# Altium footprint library PCB.PcbLib: 35 footprints (part 3 of 3)
Each footprint in its own frame and in the unit in brackets; x right, y up, seen from the top. Pads: shape width x height; smd on the part's side, far side on the other; paste and mask are expansions set on the pad; w line width, h text height; cw(c..) or ccw(c..) is an arc to the next point about the centre after c.
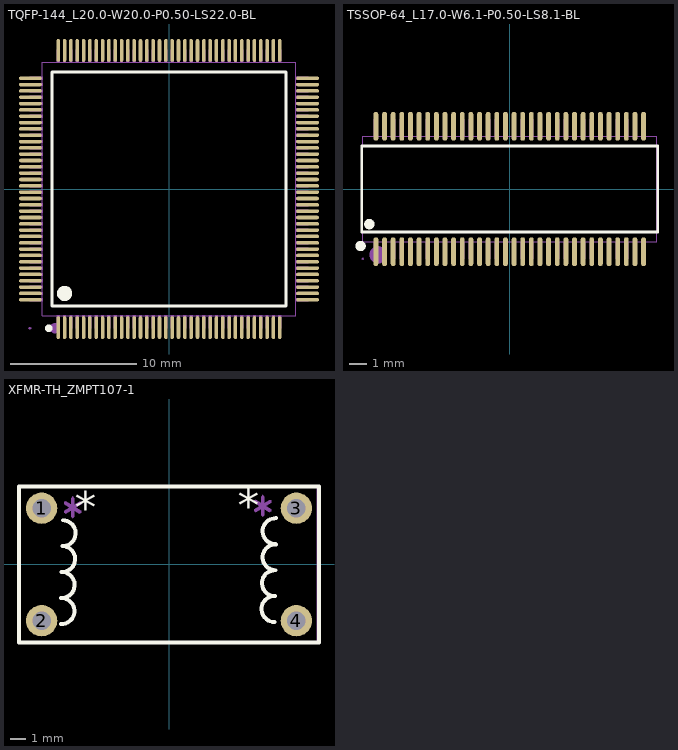
[diagram p2: the footprints below, top view; thin cyan lines are the x and y axes]

## TQFP-144_L20.0-W20.0-P0.50-LS22.0-BL [mm]
pads (144):
  oval 0.28x1.8 smd: 1(-8.75,-10.95) 2(-8.25,-10.95) 3(-7.75,-10.95) 4(-7.25,-10.95) 5(-6.75,-10.95) 6(-6.25,-10.95) 7(-5.75,-10.95) 8(-5.25,-10.95) 9(-4.75,-10.95) 10(-4.25,-10.95) 11(-3.75,-10.95) 12(-3.25,-10.95) 13(-2.75,-10.95) 14(-2.25,-10.95) 15(-1.75,-10.95) 16(-1.25,-10.95) 17(-0.75,-10.95) 18(-0.25,-10.95) 19(0.25,-10.95) 20(0.75,-10.95) 21(1.25,-10.95) 22(1.75,-10.95) 23(2.25,-10.95) 24(2.75,-10.95) 25(3.25,-10.95) 26(3.75,-10.95) 27(4.25,-10.95) 28(4.75,-10.95) 29(5.25,-10.95) 30(5.75,-10.95) 31(6.25,-10.95) 32(6.75,-10.95) 33(7.25,-10.95) 34(7.75,-10.95) 35(8.25,-10.95) 36(8.75,-10.95) 73(8.75,10.95) 74(8.25,10.95) 75(7.75,10.95) 76(7.25,10.95) 77(6.75,10.95) 78(6.25,10.95) 79(5.75,10.95) 80(5.25,10.95) 81(4.75,10.95) 82(4.25,10.95) 83(3.75,10.95) 84(3.25,10.95) 85(2.75,10.95) 86(2.25,10.95) 87(1.75,10.95) 88(1.25,10.95) 89(0.75,10.95) 90(0.25,10.95) 91(-0.25,10.95) 92(-0.75,10.95) 93(-1.25,10.95) 94(-1.75,10.95) 95(-2.25,10.95) 96(-2.75,10.95) 97(-3.25,10.95) 98(-3.75,10.95) 99(-4.25,10.95) 100(-4.75,10.95) 101(-5.25,10.95) 102(-5.75,10.95) 103(-6.25,10.95) 104(-6.75,10.95) 105(-7.25,10.95) 106(-7.75,10.95) 107(-8.25,10.95) 108(-8.75,10.95)
  oval 1.8x0.28 smd: 37(10.95,-8.75) 38(10.95,-8.25) 39(10.95,-7.75) 40(10.95,-7.25) 41(10.95,-6.75) 42(10.95,-6.25) 43(10.95,-5.75) 44(10.95,-5.25) 45(10.95,-4.75) 46(10.95,-4.25) 47(10.95,-3.75) 48(10.95,-3.25) 49(10.95,-2.75) 50(10.95,-2.25) 51(10.95,-1.75) 52(10.95,-1.25) 53(10.95,-0.75) 54(10.95,-0.25) 55(10.95,0.25) 56(10.95,0.75) 57(10.95,1.25) 58(10.95,1.75) 59(10.95,2.25) 60(10.95,2.75) 61(10.95,3.25) 62(10.95,3.75) 63(10.95,4.25) 64(10.95,4.75) 65(10.95,5.25) 66(10.95,5.75) 67(10.95,6.25) 68(10.95,6.75) 69(10.95,7.25) 70(10.95,7.75) 71(10.95,8.25) 72(10.95,8.75) 109(-10.95,8.75) 110(-10.95,8.25) 111(-10.95,7.75) 112(-10.95,7.25) 113(-10.95,6.75) 114(-10.95,6.25) 115(-10.95,5.75) 116(-10.95,5.25) 117(-10.95,4.75) 118(-10.95,4.25) 119(-10.95,3.75) 120(-10.95,3.25) 121(-10.95,2.75) 122(-10.95,2.25) 123(-10.95,1.75) 124(-10.95,1.25) 125(-10.95,0.75) 126(-10.95,0.25) 127(-10.95,-0.25) 128(-10.95,-0.75) 129(-10.95,-1.25) 130(-10.95,-1.75) 131(-10.95,-2.25) 132(-10.95,-2.75) 133(-10.95,-3.25) 134(-10.95,-3.75) 135(-10.95,-4.25) 136(-10.95,-4.75) 137(-10.95,-5.25) 138(-10.95,-5.75) 139(-10.95,-6.25) 140(-10.95,-6.75) 141(-10.95,-7.25) 142(-10.95,-7.75) 143(-10.95,-8.25) 144(-10.95,-8.75)
Top Overlay:
  lines w0.254: -9.25,-9.25 9.25,-9.25 9.25,9.25 -9.25,9.25 -9.25,-9.25
  lines w0.3: -9.5,-10.851 ccw(c-9.498,-11.001) -9.497,-10.851
  lines w0.6: -8.25,-7.95 ccw(c-8.247,-8.25) -8.245,-7.95
Mechanical 6:
  circle w0.4: c-9.02,-11 r0.2
Mechanical 15:
  drawing of 293 lines, arcs and shapes, not listed

## TSSOP-64_L17.0-W6.1-P0.50-LS8.1-BL [mm]
pads (64):
  oval 0.28x1.67 smd: 1(-7.75,-3.63) 2(-7.25,-3.63) 3(-6.75,-3.63) 4(-6.25,-3.63) 5(-5.75,-3.63) 6(-5.25,-3.63) 7(-4.75,-3.63) 8(-4.25,-3.63) 9(-3.75,-3.63) 10(-3.25,-3.63) 11(-2.75,-3.63) 12(-2.25,-3.63) 13(-1.75,-3.63) 14(-1.25,-3.63) 15(-0.75,-3.63) 16(-0.25,-3.63) 17(0.25,-3.63) 18(0.75,-3.63) 19(1.25,-3.63) 20(1.75,-3.63) 21(2.25,-3.63) 22(2.75,-3.63) 23(3.25,-3.63) 24(3.75,-3.63) 25(4.25,-3.63) 26(4.75,-3.63) 27(5.25,-3.63) 28(5.75,-3.63) 29(6.25,-3.63) 30(6.75,-3.63) 31(7.25,-3.63) 32(7.75,-3.63) 33(7.75,3.63) 34(7.25,3.63) 35(6.75,3.63) 36(6.25,3.63) 37(5.75,3.63) 38(5.25,3.63) 39(4.75,3.63) 40(4.25,3.63) 41(3.75,3.63) 42(3.25,3.63) 43(2.75,3.63) 44(2.25,3.63) 45(1.75,3.63) 46(1.25,3.63) 47(0.75,3.63) 48(0.25,3.63) 49(-0.25,3.63) 50(-0.75,3.63) 51(-1.25,3.63) 52(-1.75,3.63) 53(-2.25,3.63) 54(-2.75,3.63) 55(-3.25,3.63) 56(-3.75,3.63) 57(-4.25,3.63) 58(-4.75,3.63) 59(-5.25,3.63) 60(-5.75,3.63) 61(-6.25,3.63) 62(-6.75,3.63) 63(-7.25,3.63) 64(-7.75,3.63)
Top Overlay:
  circle w0.3: c-8.636,-3.302 r0.15
  circle w0.3: c-8.128,-2.032 r0.15
  lines w0.152: -8.576,-2.49 8.576,-2.49 8.576,2.49 -8.576,2.49 -8.576,-2.49
Mechanical 6:
  circle w0.5: c-7.62,-3.81 r0.25
Mechanical 15:
  drawing of 133 lines, arcs and shapes, not listed

## XFMR-TH_ZMPT107-1 [mm]
pads (4):
  round 2 hole 1.2: 1(-8.15,3.6) 2(-8.15,-3.6) 3(8.15,3.6) 4(8.15,-3.6)
Top Overlay:
  lines w0.254: -6.911,-3.811 ccw(c-6.881,-2.981) -6.881,-2.15 ; -6.901,-2.141 ccw(c-6.869,-1.311) -6.87,-0.48 ; -6.861,-0.481 ccw(c-6.837,0.349) -6.831,1.18 ; -6.829,1.169 ccw(c-6.806,1.999) -6.799,2.83 ; 6.749,-3.68 cw(c6.751,-2.849) 6.779,-2.019 ; 6.78,-2.03 cw(c6.781,-1.199) 6.81,-0.369 ; 6.82,-0.37 cw(c6.822,0.461) 6.85,1.291 ; 6.83,1.3 cw(c6.823,2.131) 6.86,2.961 ; -9.6,-5 9.6,-5 9.6,5 -9.6,5 -9.6,-5
  text "*" at 4.394,2.786 h2.03
  text "*" at -6.02,2.659 h2.03
Mechanical 6:
  region: -5.75,4 -5.6,4 -5.6,3.85 -6.6,3.25 -6.7,3.3 -6.7,3.45
  region: -5.6,3.45 -5.6,3.3 -5.75,3.25 -6.7,3.85 -6.7,4 -6.6,4.05
  region: -6.25,4.25 -6.15,4.35 -6.05,4.25 -6.05,3.05 -6.15,2.95 -6.25,3.05
  region: 5.901,4.35 6.001,4.45 6.101,4.35 6.101,3.15 6.001,3.05 5.901,3.15
  region: 6.401,4.1 6.551,4.1 6.551,3.95 5.551,3.35 5.451,3.4 5.451,3.55
  region: 6.551,3.55 6.551,3.4 6.401,3.35 5.451,3.95 5.451,4.1 5.551,4.15
Mechanical 15:
  region: -9.44,5 -9.44,5.025 -9.475,5.06 -9.525,5.06 -9.56,5.025 -9.56,5 -9.56,4.975 -9.525,4.94 -9.475,4.94 -9.44,4.975 -9.44,5
  region: 8.55,3.6 8.549,3.679 8.487,3.824 8.375,3.934 8.229,3.994 8.071,3.994 7.926,3.934 7.813,3.824 7.751,3.679 7.75,3.6 7.751,3.521 7.813,3.377 7.926,3.266 8.071,3.206 8.229,3.206 8.375,3.266 8.487,3.376 8.549,3.521 8.55,3.6
  region: -7.75,3.6 -7.75,3.68 -7.811,3.827 -7.923,3.939 -8.07,4 -8.23,4 -8.377,3.939 -8.489,3.827 -8.55,3.68 -8.55,3.6 -8.55,3.52 -8.489,3.373 -8.377,3.261 -8.23,3.2 -8.071,3.2 -7.923,3.261 -7.811,3.373 -7.75,3.52 -7.75,3.6
  region: 8.55,-3.6 8.549,-3.521 8.487,-3.376 8.375,-3.266 8.229,-3.206 8.071,-3.206 7.926,-3.266 7.813,-3.377 7.751,-3.521 7.75,-3.6 7.751,-3.679 7.813,-3.824 7.926,-3.934 8.071,-3.994 8.229,-3.994 8.375,-3.934 8.487,-3.824 8.549,-3.679 8.55,-3.6
  region: -7.75,-3.6 -7.75,-3.52 -7.811,-3.373 -7.923,-3.261 -8.071,-3.2 -8.23,-3.2 -8.377,-3.261 -8.489,-3.373 -8.55,-3.52 -8.55,-3.6 -8.55,-3.68 -8.489,-3.827 -8.377,-3.939 -8.23,-4 -8.07,-4 -7.923,-3.939 -7.811,-3.827 -7.75,-3.68 -7.75,-3.6
  lines w0.051: -9.5,-5 -9.5,5 9.5,5 9.5,-5 -9.5,-5